# Altium integrated library Analog Devices Data Converters Analog-to-Digital Converters.IntLib: 2404 symbols (part 26 of 346)
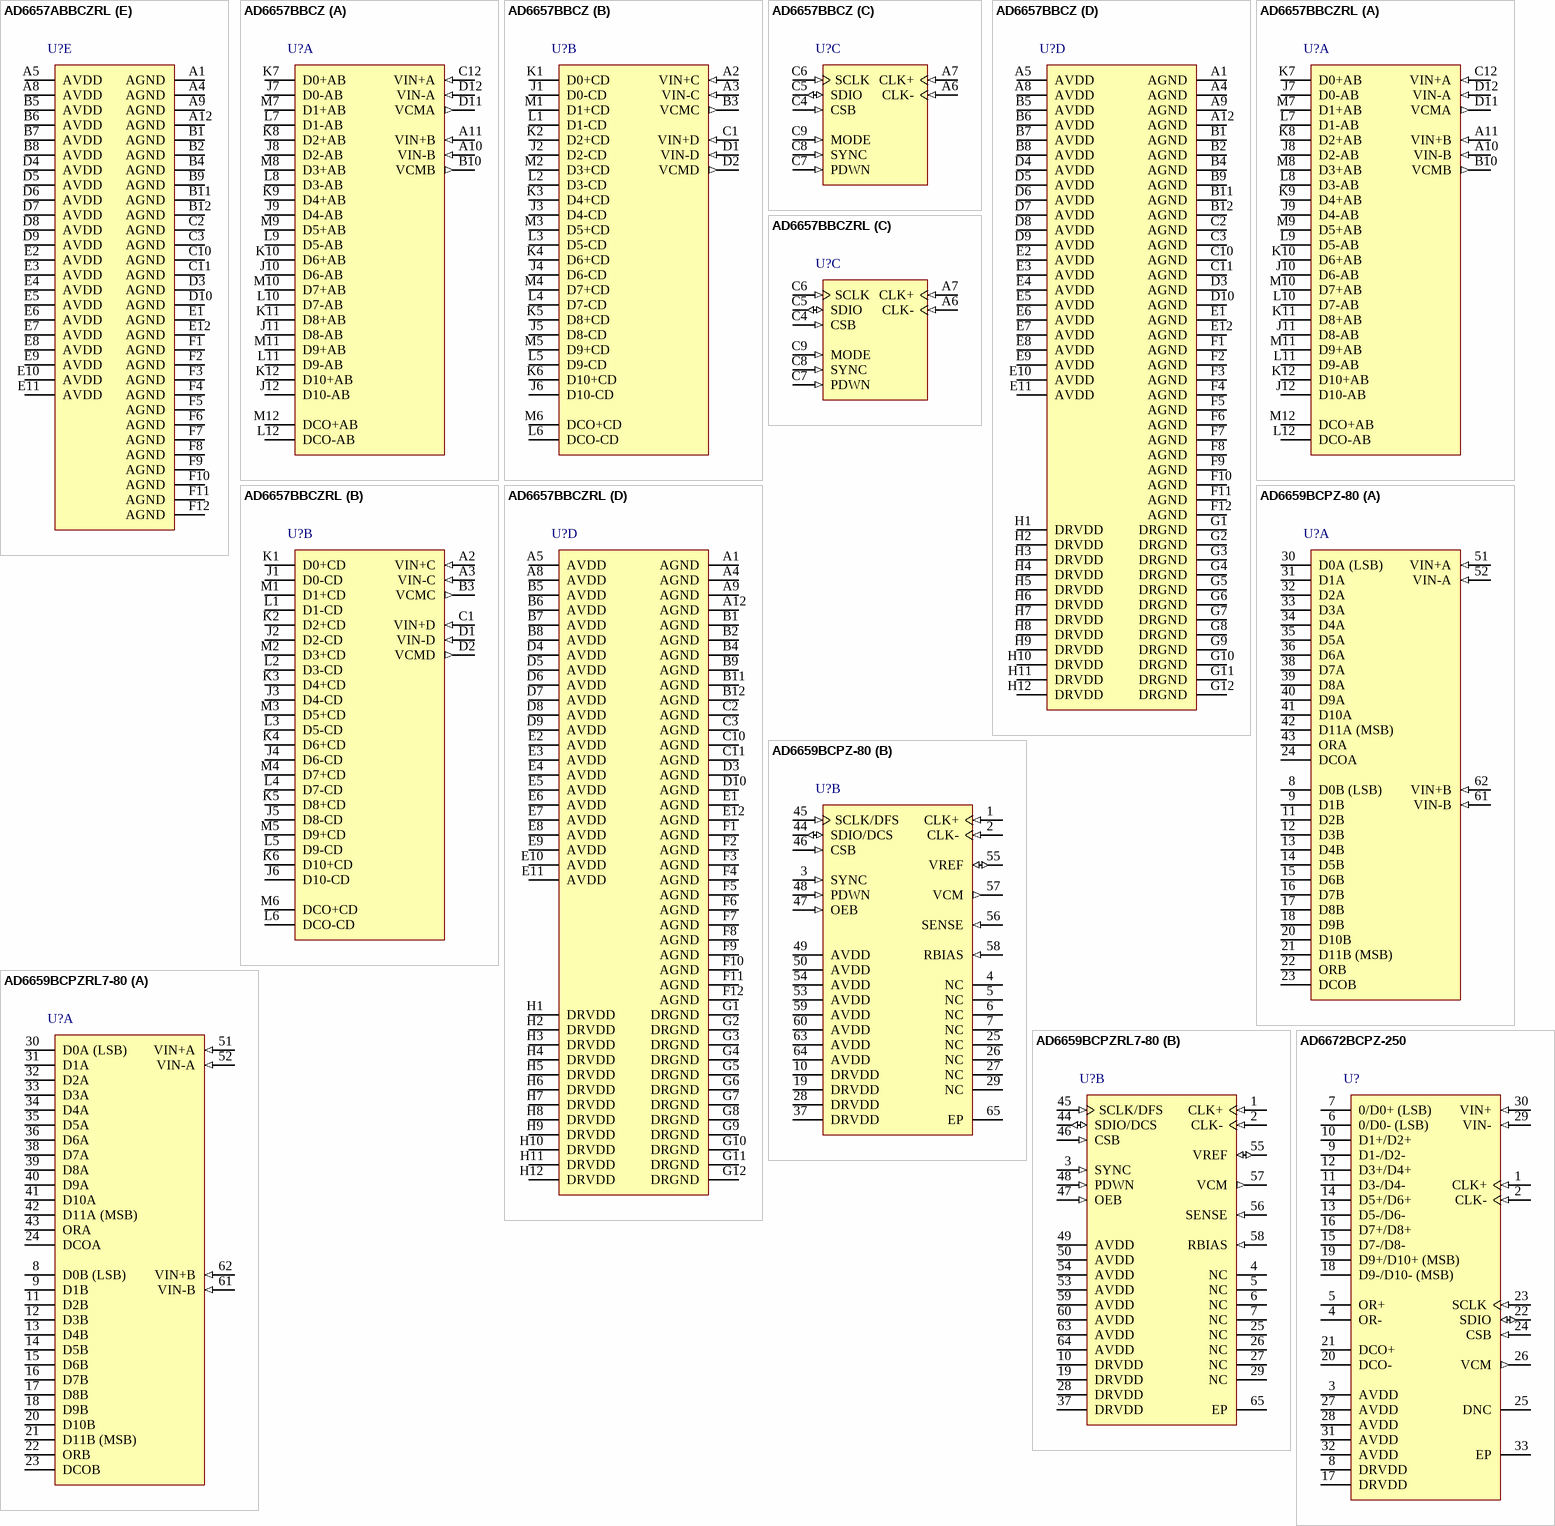
[diagram p169: symbols AD6657ABBCZRL to AD6672BCPZ-250]

## AD6657ABBCZRL
designator U?
Quad IF Receiver, -40 to +85 degC, BC-144-1, Pb-Free, Reel; Generic Part Number: AD6657A; Manufacturer: Analog Devices; PartNumber: AD6657ABBCZRL; Channels: 4; DatasheetVersion: Rev.0; PackageVersion: 012006-0; PackageReference: BC-144-1; PackageDescription: 144-Ball Chip Scale Package Ball Grid Array [CSP_BGA]; Supplier 1: Digi-Key; Supplier Part Number 1: AD6657ABBCZRL-ND; Supplier 2: Mouser; Supplier Part Number 2: 584-AD6657ABBCZR; RoHS: Y; Packing: Reel; Mounting Technology: Surface Mount; Code_JEDEC: MO-205-AC; ComponentLink1Description: Manufacturer URL; ComponentLink1URL: http://www.analog.com/en/index.html; ComponentLink2Description: Datasheet; ComponentLink2URL: http://www.analog.com/static/imported-files/data_sheets/AD6657A.pdf; ComponentLink3Description: Package Specification; ComponentLink3URL: http://www.analog.com/static/imported-files/packages/453163286836504146030385BC_144_1.pdf; ComponentLink4Description: Product URL; ComponentLink4URL: http://www.analog.com/en/analog-to-digital-converters/integrated-receivers/ad6657a/products/product.html
footprint BC-144-1 (BGA, 144-Leads, Body 10x10mm, Pitch 0.8mm)
part A pins: A10 VIN-B (in) "Differential Analog Input Pin (-) for Channel B.", A11 VIN+B (in) "Differential Analog Input Pin (+) for Channel B.", B10 VCMB (out) "Common-Mode Level Bias Output for Analog Input Channel B.", C12 VIN+A (in) "Differential Analog Input Pin (+) for Channel A.", D11 VCMA (out) "Common-Mode Level Bias Output for Analog Input Channel A.", D12 VIN-A (in) "Differential Analog Input Pin (-) for Channel A.", J7 D0-AB (out) "Channel A and Channel B LVDS Output Data 0--Complement.", J8 D2-AB (out) "Channel A and Channel B LVDS Output Data 2--Complement.", J9 D4-AB (out) "Channel A and Channel B LVDS Output Data 4--Complement.", J10 D6-AB (out) "Channel A and Channel B LVDS Output Data 6--Complement.", J11 D8-AB (out) "Channel A and Channel B LVDS Output Data 8--Complement.", J12 D10-AB (out) "Channel A and Channel B LVDS Output Data 10--Complement.", K7 D0+AB (out) "Channel A and Channel B LVDS Output Data 0--True.", K8 D2+AB (out) "Channel A and Channel B LVDS Output Data 2--True.", K9 D4+AB (out) "Channel A and Channel B LVDS Output Data 4--True.", K10 D6+AB (out) "Channel A and Channel B LVDS Output Data 6--True.", K11 D8+AB (out) "Channel A and Channel B LVDS Output Data 8--True.", K12 D10+AB (out) "Channel A and Channel B LVDS Output Data 10--True.", L7 D1-AB (out) "Channel A and Channel B LVDS Output Data 1--Complement.", L8 D3-AB (out) "Channel A and Channel B LVDS Output Data 3--Complement.", L9 D5-AB (out) "Channel A and Channel B LVDS Output Data 5--Complement.", L10 D7-AB (out) "Channel A and Channel B LVDS Output Data 7--Complement.", L11 D9-AB (out) "Channel A and Channel B LVDS Output Data 9--Complement.", L12 DCO-AB (out) "Data Clock LVDS Output for Channel A and Channel B--Complement.", M7 D1+AB (out) "Channel A and Channel B LVDS Output Data 1--True.", M8 D3+AB (out) "Channel A and Channel B LVDS Output Data 3--True.", M9 D5+AB (out) "Channel A and Channel B LVDS Output Data 5--True.", M10 D7+AB (out) "Channel A and Channel B LVDS Output Data 7--True.", M11 D9+AB (out) "Channel A and Channel B LVDS Output Data 9--True.", M12 DCO+AB (out) "Data Clock LVDS Output for Channel A and Channel B--True."
part B pins: A2 VIN+C (in) "Differential Analog Input Pin (+) for Channel C.", A3 VIN-C (in) "Differential Analog Input Pin (-) for Channel C.", B3 VCMC (out) "Common-Mode Level Bias Output for Analog Input Channel C.", C1 VIN+D (in) "Differential Analog Input Pin (+) for Channel D.", D1 VIN-D (in) "Differential Analog Input Pin (-) for Channel D.", D2 VCMD (out) "Common-Mode Level Bias Output for Analog Input Channel D.", J1 D0-CD (out) "Channel C and Channel D LVDS Output Data 0--Complement.", J2 D2-CD (out) "Channel C and Channel D LVDS Output Data 2--Complement.", J3 D4-CD (out) "Channel C and Channel D LVDS Output Data 4--Complement.", J4 D6-CD (out) "Channel C and Channel D LVDS Output Data 6--Complement.", J5 D8-CD (out) "Channel C and Channel D LVDS Output Data 8--Complement.", J6 D10-CD (out) "Channel C and Channel D LVDS Output Data 10--Complement.", K1 D0+CD (out) "Channel C and Channel D LVDS Output Data 0--True.", K2 D2+CD (out) "Channel C and Channel D LVDS Output Data 2--True.", K3 D4+CD (out) "Channel C and Channel D LVDS Output Data 4--True.", K4 D6+CD (out) "Channel C and Channel D LVDS Output Data 6--True.", K5 D8+CD (out) "Channel C and Channel D LVDS Output Data 8--True.", K6 D10+CD (out) "Channel C and Channel D LVDS Output Data 10--True.", L1 D1-CD (out) "Channel C and Channel D LVDS Output Data 1--Complement.", L2 D3-CD (out) "Channel C and Channel D LVDS Output Data 3--Complement.", L3 D5-CD (out) "Channel C and Channel D LVDS Output Data 5--Complement.", L4 D7-CD (out) "Channel C and Channel D LVDS Output Data 7--Complement.", L5 D9-CD (out) "Channel C and Channel D LVDS Output Data 9--Complement.", L6 DCO-CD (out) "Data Clock LVDS Output for Channel C and Channel D--Complement.", M1 D1+CD (out) "Channel C and Channel D LVDS Output Data 1--True.", M2 D3+CD (out) "Channel C and Channel D LVDS Output Data 3--True.", M3 D5+CD (out) "Channel C and Channel D LVDS Output Data 5--True.", M4 D7+CD (out) "Channel C and Channel D LVDS Output Data 7--True.", M5 D9+CD (out) "Channel C and Channel D LVDS Output Data 9--True.", M6 DCO+CD (out) "Data Clock LVDS Output for Channel C and Channel D--True."
part C pins: A6 CLK- (in) "ADC Clock Input--Complement.", A7 CLK+ (in) "ADC Clock Input--True.", C4 CSB (in) "SPI Chip Select (Active Low).", C5 SDIO (io) "SPI Data.", C6 SCLK (in) "SPI Clock.", C7 PDWN (in) "Power-Down Input (Active High).", C8 SYNC (in) "Digital Synchronization Pin.", C9 MODE (in) "Mode Select Pin. Logic low enables NSR; logic high disables NSR."
part D pins: G1 DRGND (power) "Digital Output Driver Ground.", G2 DRGND (power) "Digital Output Driver Ground.", G3 DRGND (power) "Digital Output Driver Ground.", G4 DRGND (power) "Digital Output Driver Ground.", G5 DRGND (power) "Digital Output Driver Ground.", G6 DRGND (power) "Digital Output Driver Ground.", G7 DRGND (power) "Digital Output Driver Ground.", G8 DRGND (power) "Digital Output Driver Ground.", G9 DRGND (power) "Digital Output Driver Ground.", G10 DRGND (power) "Digital Output Driver Ground.", G11 DRGND (power) "Digital Output Driver Ground.", G12 DRGND (power) "Digital Output Driver Ground.", H1 DRVDD (power) "Digital Output Driver Supply. 1.8 V nominal.", H2 DRVDD (power) "Digital Output Driver Supply. 1.8 V nominal.", H3 DRVDD (power) "Digital Output Driver Supply. 1.8 V nominal.", H4 DRVDD (power) "Digital Output Driver Supply. 1.8 V nominal.", H5 DRVDD (power) "Digital Output Driver Supply. 1.8 V nominal.", H6 DRVDD (power) "Digital Output Driver Supply. 1.8 V nominal.", H7 DRVDD (power) "Digital Output Driver Supply. 1.8 V nominal.", H8 DRVDD (power) "Digital Output Driver Supply. 1.8 V nominal.", H9 DRVDD (power) "Digital Output Driver Supply. 1.8 V nominal.", H10 DRVDD (power) "Digital Output Driver Supply. 1.8 V nominal.", H11 DRVDD (power) "Digital Output Driver Supply. 1.8 V nominal.", H12 DRVDD (power) "Digital Output Driver Supply. 1.8 V nominal."
part E pins: A1 AGND (power) "Analog Ground.", A4 AGND (power) "Analog Ground.", A5 AVDD (power) "Analog Power Supply. 1.8 V nominal.", A8 AVDD (power) "Analog Power Supply. 1.8 V nominal.", A9 AGND (power) "Analog Ground.", A12 AGND (power) "Analog Ground.", B1 AGND (power) "Analog Ground.", B2 AGND (power) "Analog Ground.", B4 AGND (power) "Analog Ground.", B5 AVDD (power) "Analog Power Supply. 1.8 V nominal.", B6 AVDD (power) "Analog Power Supply. 1.8 V nominal.", B7 AVDD (power) "Analog Power Supply. 1.8 V nominal.", B8 AVDD (power) "Analog Power Supply. 1.8 V nominal.", B9 AGND (power) "Analog Ground.", B11 AGND (power) "Analog Ground.", B12 AGND (power) "Analog Ground.", C2 AGND (power) "Analog Ground.", C3 AGND (power) "Analog Ground.", C10 AGND (power) "Analog Ground.", C11 AGND (power) "Analog Ground.", D3 AGND (power) "Analog Ground.", D4 AVDD (power) "Analog Power Supply. 1.8 V nominal.", D5 AVDD (power) "Analog Power Supply. 1.8 V nominal.", D6 AVDD (power) "Analog Power Supply. 1.8 V nominal.", D7 AVDD (power) "Analog Power Supply. 1.8 V nominal.", D8 AVDD (power) "Analog Power Supply. 1.8 V nominal.", D9 AVDD (power) "Analog Power Supply. 1.8 V nominal.", D10 AGND (power) "Analog Ground.", E1 AGND (power) "Analog Ground.", E2 AVDD (power) "Analog Power Supply. 1.8 V nominal.", E3 AVDD (power) "Analog Power Supply. 1.8 V nominal.", E4 AVDD (power) "Analog Power Supply. 1.8 V nominal.", E5 AVDD (power) "Analog Power Supply. 1.8 V nominal.", E6 AVDD (power) "Analog Power Supply. 1.8 V nominal.", E7 AVDD (power) "Analog Power Supply. 1.8 V nominal.", E8 AVDD (power) "Analog Power Supply. 1.8 V nominal.", E9 AVDD (power) "Analog Power Supply. 1.8 V nominal.", E10 AVDD (power) "Analog Power Supply. 1.8 V nominal.", E11 AVDD (power) "Analog Power Supply. 1.8 V nominal.", E12 AGND (power) "Analog Ground.", F1 AGND (power) "Analog Ground.", F2 AGND (power) "Analog Ground.", F3 AGND (power) "Analog Ground.", F4 AGND (power) "Analog Ground.", F5 AGND (power) "Analog Ground.", F6 AGND (power) "Analog Ground.", F7 AGND (power) "Analog Ground.", F8 AGND (power) "Analog Ground.", F9 AGND (power) "Analog Ground.", F10 AGND (power) "Analog Ground.", F11 AGND (power) "Analog Ground.", F12 AGND (power) "Analog Ground."

## AD6657BBCZ
designator U?
Quad 11-Bit IF Receiver with LVDS, Parallel Interface, 200MSPS, -40 to +85 degC, BC-144-1, Pb-Free, Tray; Generic Part Number: AD6657; Manufacturer: Analog Devices; PartNumber: AD6657BBCZ; Resolution (Bits): 11; Channels: 4; Throughput Rate (SPS): 200M; DatasheetVersion: Rev.B; PackageVersion: 012006-0; PackageReference: BC-144-1; PackageDescription: 144-Ball Chip Scale Package Ball Grid Array [CSP_BGA]; Supplier 1: Digi-Key; Supplier Part Number 1: AD6657BBCZ-ND; Supplier 2: Farnell; Supplier Part Number 2: 2081220; Supplier 3: Mouser; Supplier Part Number 3: 584-AD6657BBCZ; Interface: LVDS, Par; RoHS: Y; Packing: Tray; Mounting Technology: Surface Mount; Code_JEDEC: MO-205-AC; ComponentLink1Description: Manufacturer URL; ComponentLink1URL: http://www.analog.com/en/index.html; ComponentLink2Description: Datasheet; ComponentLink2URL: http://www.analog.com/static/imported-files/data_sheets/AD6657.pdf; ComponentLink3Description: Package Specification; ComponentLink3URL: http://www.analog.com/static/imported-files/packages/453163286836504146030385BC_144_1.pdf; ComponentLink4Description: Product URL; ComponentLink4URL: http://www.analog.com/en/analog-to-digital-converters/integrated-receivers/ad6657/products/product.html
footprint BC-144-1 (BGA, 144-Leads, Body 10x10mm, Pitch 0.8mm)
part A pins: A10 VIN-B (in) "Differential Analog Input Pin (-) for Channel B", A11 VIN+B (in) "Differential Analog Input Pin (+) for Channel B", B10 VCMB (out) "Common-Mode Level Bias Output for Analog Input Channel B", C12 VIN+A (in) "Differential Analog Input Pin (+) for Channel A", D11 VCMA (out) "Common-Mode Level Bias Output for Analog Input Channel A", D12 VIN-A (in) "Differential Analog Input Pin (-) for Channel A", J7 D0-AB (hiz) "Channel A and Channel B LVDS Output Data 0--Complement", J8 D2-AB (hiz) "Channel A and Channel B LVDS Output Data 2--Complement", J9 D4-AB (hiz) "Channel A and Channel B LVDS Output Data 4--Complement", J10 D6-AB (hiz) "Channel A and Channel B LVDS Output Data 6--Complement", J11 D8-AB (hiz) "Channel A and Channel B LVDS Output Data 8--Complement", J12 D10-AB (hiz) "Channel A and Channel B LVDS Output Data 10--Complement", K7 D0+AB (hiz) "Channel A and Channel B LVDS Output Data 0--True", K8 D2+AB (hiz) "Channel A and Channel B LVDS Output Data 2--True", K9 D4+AB (hiz) "Channel A and Channel B LVDS Output Data 4--True", K10 D6+AB (hiz) "Channel A and Channel B LVDS Output Data 6--True", K11 D8+AB (hiz) "Channel A and Channel B LVDS Output Data 6--True", K12 D10+AB (hiz) "Channel A and Channel B LVDS Output Data 6--True", L7 D1-AB (hiz) "Channel A and Channel B LVDS Output Data 1--Complement", L8 D3-AB (hiz) "Channel A and Channel B LVDS Output Data 3--Complement", L9 D5-AB (hiz) "Channel A and Channel B LVDS Output Data 5--Complement", L10 D7-AB (hiz) "Channel A and Channel B LVDS Output Data 7--Complement", L11 D9-AB (hiz) "Channel A and Channel B LVDS Output Data 9--Complement", L12 DCO-AB (hiz) "Data Clock LVDS Output for Channel A and Channel B--Complement", M7 D1+AB (hiz) "Channel A and Channel B LVDS Output Data 1--True", M8 D3+AB (hiz) "Channel A and Channel B LVDS Output Data 3--True", M9 D5+AB (hiz) "Channel A and Channel B LVDS Output Data 5--True", M10 D7+AB (hiz) "Channel A and Channel B LVDS Output Data 7--True", M11 D9+AB (hiz) "Channel A and Channel B LVDS Output Data 9--True", M12 DCO+AB (hiz) "Data Clock LVDS Output for Channel A and Channel B--True"
part B pins: A2 VIN+C (in) "Differential Analog Input Pin (+) for Channel C", A3 VIN-C (in) "Differential Analog Input Pin (-) for Channel C", B3 VCMC (out) "Common-Mode Level Bias Output for Analog Input Channel C", C1 VIN+D (in) "Differential Analog Input Pin (+) for Channel D", D1 VIN-D (in) "Differential Analog Input Pin (-) for Channel D", D2 VCMD (out) "Common-Mode Level Bias Output for Analog Input Channel D", J1 D0-CD (hiz) "Channel C and Channel D LVDS Output Data 0--Complement", J2 D2-CD (hiz) "Channel C and Channel D LVDS Output Data 2--Complement", J3 D4-CD (hiz) "Channel C and Channel D LVDS Output Data 4--Complement", J4 D6-CD (hiz) "Channel C and Channel D LVDS Output Data 6--Complement", J5 D8-CD (hiz) "Channel C and Channel D LVDS Output Data 8--Complement", J6 D10-CD (hiz) "Channel C and Channel D LVDS Output Data 10--Complement", K1 D0+CD (hiz) "Channel C and Channel D LVDS Output Data 0--True", K2 D2+CD (hiz) "Channel C and Channel D LVDS Output Data 2--True", K3 D4+CD (hiz) "Channel C and Channel D LVDS Output Data 4--True", K4 D6+CD (hiz) "Channel C and Channel D LVDS Output Data 6--True", K5 D8+CD (hiz) "Channel C and Channel D LVDS Output Data 8--True", K6 D10+CD (hiz) "Channel C and Channel D LVDS Output Data 10--True", L1 D1-CD (hiz) "Channel C and Channel D LVDS Output Data 1--Complement", L2 D3-CD (hiz) "Channel C and Channel D LVDS Output Data 3--Complement", L3 D5-CD (hiz) "Channel C and Channel D LVDS Output Data 5--Complement", L4 D7-CD (hiz) "Channel C and Channel D LVDS Output Data 7--Complement", L5 D9-CD (hiz) "Channel C and Channel D LVDS Output Data 9--Complement", L6 DCO-CD (hiz) "Data Clock LVDS Output for Channel C and Channel D--Complement", M1 D1+CD (hiz) "Channel C and Channel D LVDS Output Data 1--True", M2 D3+CD (hiz) "Channel C and Channel D LVDS Output Data 3--True", M3 D5+CD (hiz) "Channel C and Channel D LVDS Output Data 5--True", M4 D7+CD (hiz) "Channel C and Channel D LVDS Output Data 7--True", M5 D9+CD (hiz) "Channel C and Channel D LVDS Output Data 9--True", M6 DCO+CD (hiz) "Data Clock LVDS Output for Channel C and Channel D--True"
part C pins: A6 CLK- (in) "ADC Clock Input--Complement", A7 CLK+ (in) "ADC Clock Input--True", C4 CSB (in) "SPI Chip Select (Active Low)", C5 SDIO (io) "SPI Data", C6 SCLK (in) "SPI Clock", C7 PDWN (in) "Power-Down Input (Active High)", C8 SYNC (in) "Digital Synchronization Pin", C9 MODE (in) "Mode Select Pin (Logic Low Enables NSR; Logic High Disables NSR)"
part D pins: A1 AGND (power) "Analog Ground", A4 AGND (power) "Analog Ground", A5 AVDD (power) "Analog Power Supply (1.8 V Nominal)", A8 AVDD (power) "Analog Power Supply (1.8 V Nominal)", A9 AGND (power) "Analog Ground", A12 AGND (power) "Analog Ground", B1 AGND (power) "Analog Ground", B2 AGND (power) "Analog Ground", B4 AGND (power) "Analog Ground", B5 AVDD (power) "Analog Power Supply (1.8 V Nominal)", B6 AVDD (power) "Analog Power Supply (1.8 V Nominal)", B7 AVDD (power) "Analog Power Supply (1.8 V Nominal)", B8 AVDD (power) "Analog Power Supply (1.8 V Nominal)", B9 AGND (power) "Analog Ground", B11 AGND (power) "Analog Ground", B12 AGND (power) "Analog Ground", C2 AGND (power) "Analog Ground", C3 AGND (power) "Analog Ground", C10 AGND (power) "Analog Ground", C11 AGND (power) "Analog Ground", D3 AGND (power) "Analog Ground", D4 AVDD (power) "Analog Power Supply (1.8 V Nominal)", D5 AVDD (power) "Analog Power Supply (1.8 V Nominal)", D6 AVDD (power) "Analog Power Supply (1.8 V Nominal)", D7 AVDD (power) "Analog Power Supply (1.8 V Nominal)", D8 AVDD (power) "Analog Power Supply (1.8 V Nominal)", D9 AVDD (power) "Analog Power Supply (1.8 V Nominal)", D10 AGND (power) "Analog Ground", E1 AGND (power) "Analog Ground", E2 AVDD (power) "Analog Power Supply (1.8 V Nominal)", E3 AVDD (power) "Analog Power Supply (1.8 V Nominal)", E4 AVDD (power) "Analog Power Supply (1.8 V Nominal)", E5 AVDD (power) "Analog Power Supply (1.8 V Nominal)", E6 AVDD (power) "Analog Power Supply (1.8 V Nominal)", E7 AVDD (power) "Analog Power Supply (1.8 V Nominal)", E8 AVDD (power) "Analog Power Supply (1.8 V Nominal)", E9 AVDD (power) "Analog Power Supply (1.8 V Nominal)", E10 AVDD (power) "Analog Power Supply (1.8 V Nominal)", E11 AVDD (power) "Analog Power Supply (1.8 V Nominal)", E12 AGND (power) "Analog Ground", F1 AGND (power) "Analog Ground", F2 AGND (power) "Analog Ground", F3 AGND (power) "Analog Ground", F4 AGND (power) "Analog Ground", F5 AGND (power) "Analog Ground", F6 AGND (power) "Analog Ground", F7 AGND (power) "Analog Ground", F8 AGND (power) "Analog Ground", F9 AGND (power) "Analog Ground", F10 AGND (power) "Analog Ground", F11 AGND (power) "Analog Ground", F12 AGND (power) "Analog Ground", G1 DRGND (power) "Digital Output Driver Ground", G2 DRGND (power) "Digital Output Driver Ground", G3 DRGND (power) "Digital Output Driver Ground", G4 DRGND (power) "Digital Output Driver Ground", G5 DRGND (power) "Digital Output Driver Ground", G6 DRGND (power) "Digital Output Driver Ground", G7 DRGND (power) "Digital Output Driver Ground", G8 DRGND (power) "Digital Output Driver Ground", G9 DRGND (power) "Digital Output Driver Ground", G10 DRGND (power) "Digital Output Driver Ground", G11 DRGND (power) "Digital Output Driver Ground", G12 DRGND (power) "Digital Output Driver Ground", H1 DRVDD (power) "Digital Output Driver Supply (1.8 V Nominal)", H2 DRVDD (power) "Digital Output Driver Supply (1.8 V Nominal)", H3 DRVDD (power) "Digital Output Driver Supply (1.8 V Nominal)", H4 DRVDD (power) "Digital Output Driver Supply (1.8 V Nominal)", H5 DRVDD (power) "Digital Output Driver Supply (1.8 V Nominal)", H6 DRVDD (power) "Digital Output Driver Supply (1.8 V Nominal)", H7 DRVDD (power) "Digital Output Driver Supply (1.8 V Nominal)", H8 DRVDD (power) "Digital Output Driver Supply (1.8 V Nominal)", H9 DRVDD (power) "Digital Output Driver Supply (1.8 V Nominal)", H10 DRVDD (power) "Digital Output Driver Supply (1.8 V Nominal)", H11 DRVDD (power) "Digital Output Driver Supply (1.8 V Nominal)", H12 DRVDD (power) "Digital Output Driver Supply (1.8 V Nominal)"

## AD6657BBCZRL
designator U?
Quad 11-Bit IF Receiver with LVDS, Parallel Interface, 200MSPS, -40 to +85 degC, BC-144-1, Pb-Free, Reel; Generic Part Number: AD6657; Manufacturer: Analog Devices; PartNumber: AD6657BBCZRL; Resolution (Bits): 11; Channels: 4; Throughput Rate (SPS): 200M; DatasheetVersion: Rev.B; PackageVersion: 012006-0; PackageReference: BC-144-1; PackageDescription: 144-Ball Chip Scale Package Ball Grid Array [CSP_BGA]; Supplier 1: Digi-Key; Supplier Part Number 1: AD6657BBCZRL-ND; Supplier 2: Mouser; Supplier Part Number 2: 584-AD6657BBCZR; Interface: LVDS, Par; RoHS: Y; Packing: Reel; Mounting Technology: Surface Mount; Code_JEDEC: MO-205-AC; ComponentLink1Description: Manufacturer URL; ComponentLink1URL: http://www.analog.com/en/index.html; ComponentLink2Description: Datasheet; ComponentLink2URL: http://www.analog.com/static/imported-files/data_sheets/AD6657.pdf; ComponentLink3Description: Package Specification; ComponentLink3URL: http://www.analog.com/static/imported-files/packages/453163286836504146030385BC_144_1.pdf; ComponentLink4Description: Product URL; ComponentLink4URL: http://www.analog.com/en/analog-to-digital-converters/integrated-receivers/ad6657/products/product.html
footprint BC-144-1 (BGA, 144-Leads, Body 10x10mm, Pitch 0.8mm)
part A pins: A10 VIN-B (in) "Differential Analog Input Pin (-) for Channel B", A11 VIN+B (in) "Differential Analog Input Pin (+) for Channel B", B10 VCMB (out) "Common-Mode Level Bias Output for Analog Input Channel B", C12 VIN+A (in) "Differential Analog Input Pin (+) for Channel A", D11 VCMA (out) "Common-Mode Level Bias Output for Analog Input Channel A", D12 VIN-A (in) "Differential Analog Input Pin (-) for Channel A", J7 D0-AB (hiz) "Channel A and Channel B LVDS Output Data 0--Complement", J8 D2-AB (hiz) "Channel A and Channel B LVDS Output Data 2--Complement", J9 D4-AB (hiz) "Channel A and Channel B LVDS Output Data 4--Complement", J10 D6-AB (hiz) "Channel A and Channel B LVDS Output Data 6--Complement", J11 D8-AB (hiz) "Channel A and Channel B LVDS Output Data 8--Complement", J12 D10-AB (hiz) "Channel A and Channel B LVDS Output Data 10--Complement", K7 D0+AB (hiz) "Channel A and Channel B LVDS Output Data 0--True", K8 D2+AB (hiz) "Channel A and Channel B LVDS Output Data 2--True", K9 D4+AB (hiz) "Channel A and Channel B LVDS Output Data 4--True", K10 D6+AB (hiz) "Channel A and Channel B LVDS Output Data 6--True", K11 D8+AB (hiz) "Channel A and Channel B LVDS Output Data 6--True", K12 D10+AB (hiz) "Channel A and Channel B LVDS Output Data 6--True", L7 D1-AB (hiz) "Channel A and Channel B LVDS Output Data 1--Complement", L8 D3-AB (hiz) "Channel A and Channel B LVDS Output Data 3--Complement", L9 D5-AB (hiz) "Channel A and Channel B LVDS Output Data 5--Complement", L10 D7-AB (hiz) "Channel A and Channel B LVDS Output Data 7--Complement", L11 D9-AB (hiz) "Channel A and Channel B LVDS Output Data 9--Complement", L12 DCO-AB (hiz) "Data Clock LVDS Output for Channel A and Channel B--Complement", M7 D1+AB (hiz) "Channel A and Channel B LVDS Output Data 1--True", M8 D3+AB (hiz) "Channel A and Channel B LVDS Output Data 3--True", M9 D5+AB (hiz) "Channel A and Channel B LVDS Output Data 5--True", M10 D7+AB (hiz) "Channel A and Channel B LVDS Output Data 7--True", M11 D9+AB (hiz) "Channel A and Channel B LVDS Output Data 9--True", M12 DCO+AB (hiz) "Data Clock LVDS Output for Channel A and Channel B--True"
part B pins: A2 VIN+C (in) "Differential Analog Input Pin (+) for Channel C", A3 VIN-C (in) "Differential Analog Input Pin (-) for Channel C", B3 VCMC (out) "Common-Mode Level Bias Output for Analog Input Channel C", C1 VIN+D (in) "Differential Analog Input Pin (+) for Channel D", D1 VIN-D (in) "Differential Analog Input Pin (-) for Channel D", D2 VCMD (out) "Common-Mode Level Bias Output for Analog Input Channel D", J1 D0-CD (hiz) "Channel C and Channel D LVDS Output Data 0--Complement", J2 D2-CD (hiz) "Channel C and Channel D LVDS Output Data 2--Complement", J3 D4-CD (hiz) "Channel C and Channel D LVDS Output Data 4--Complement", J4 D6-CD (hiz) "Channel C and Channel D LVDS Output Data 6--Complement", J5 D8-CD (hiz) "Channel C and Channel D LVDS Output Data 8--Complement", J6 D10-CD (hiz) "Channel C and Channel D LVDS Output Data 10--Complement", K1 D0+CD (hiz) "Channel C and Channel D LVDS Output Data 0--True", K2 D2+CD (hiz) "Channel C and Channel D LVDS Output Data 2--True", K3 D4+CD (hiz) "Channel C and Channel D LVDS Output Data 4--True", K4 D6+CD (hiz) "Channel C and Channel D LVDS Output Data 6--True", K5 D8+CD (hiz) "Channel C and Channel D LVDS Output Data 8--True", K6 D10+CD (hiz) "Channel C and Channel D LVDS Output Data 10--True", L1 D1-CD (hiz) "Channel C and Channel D LVDS Output Data 1--Complement", L2 D3-CD (hiz) "Channel C and Channel D LVDS Output Data 3--Complement", L3 D5-CD (hiz) "Channel C and Channel D LVDS Output Data 5--Complement", L4 D7-CD (hiz) "Channel C and Channel D LVDS Output Data 7--Complement", L5 D9-CD (hiz) "Channel C and Channel D LVDS Output Data 9--Complement", L6 DCO-CD (hiz) "Data Clock LVDS Output for Channel C and Channel D--Complement", M1 D1+CD (hiz) "Channel C and Channel D LVDS Output Data 1--True", M2 D3+CD (hiz) "Channel C and Channel D LVDS Output Data 3--True", M3 D5+CD (hiz) "Channel C and Channel D LVDS Output Data 5--True", M4 D7+CD (hiz) "Channel C and Channel D LVDS Output Data 7--True", M5 D9+CD (hiz) "Channel C and Channel D LVDS Output Data 9--True", M6 DCO+CD (hiz) "Data Clock LVDS Output for Channel C and Channel D--True"
part C pins: A6 CLK- (in) "ADC Clock Input--Complement", A7 CLK+ (in) "ADC Clock Input--True", C4 CSB (in) "SPI Chip Select (Active Low)", C5 SDIO (io) "SPI Data", C6 SCLK (in) "SPI Clock", C7 PDWN (in) "Power-Down Input (Active High)", C8 SYNC (in) "Digital Synchronization Pin", C9 MODE (in) "Mode Select Pin (Logic Low Enables NSR; Logic High Disables NSR)"
part D pins: A1 AGND (power) "Analog Ground", A4 AGND (power) "Analog Ground", A5 AVDD (power) "Analog Power Supply (1.8 V Nominal)", A8 AVDD (power) "Analog Power Supply (1.8 V Nominal)", A9 AGND (power) "Analog Ground", A12 AGND (power) "Analog Ground", B1 AGND (power) "Analog Ground", B2 AGND (power) "Analog Ground", B4 AGND (power) "Analog Ground", B5 AVDD (power) "Analog Power Supply (1.8 V Nominal)", B6 AVDD (power) "Analog Power Supply (1.8 V Nominal)", B7 AVDD (power) "Analog Power Supply (1.8 V Nominal)", B8 AVDD (power) "Analog Power Supply (1.8 V Nominal)", B9 AGND (power) "Analog Ground", B11 AGND (power) "Analog Ground", B12 AGND (power) "Analog Ground", C2 AGND (power) "Analog Ground", C3 AGND (power) "Analog Ground", C10 AGND (power) "Analog Ground", C11 AGND (power) "Analog Ground", D3 AGND (power) "Analog Ground", D4 AVDD (power) "Analog Power Supply (1.8 V Nominal)", D5 AVDD (power) "Analog Power Supply (1.8 V Nominal)", D6 AVDD (power) "Analog Power Supply (1.8 V Nominal)", D7 AVDD (power) "Analog Power Supply (1.8 V Nominal)", D8 AVDD (power) "Analog Power Supply (1.8 V Nominal)", D9 AVDD (power) "Analog Power Supply (1.8 V Nominal)", D10 AGND (power) "Analog Ground", E1 AGND (power) "Analog Ground", E2 AVDD (power) "Analog Power Supply (1.8 V Nominal)", E3 AVDD (power) "Analog Power Supply (1.8 V Nominal)", E4 AVDD (power) "Analog Power Supply (1.8 V Nominal)", E5 AVDD (power) "Analog Power Supply (1.8 V Nominal)", E6 AVDD (power) "Analog Power Supply (1.8 V Nominal)", E7 AVDD (power) "Analog Power Supply (1.8 V Nominal)", E8 AVDD (power) "Analog Power Supply (1.8 V Nominal)", E9 AVDD (power) "Analog Power Supply (1.8 V Nominal)", E10 AVDD (power) "Analog Power Supply (1.8 V Nominal)", E11 AVDD (power) "Analog Power Supply (1.8 V Nominal)", E12 AGND (power) "Analog Ground", F1 AGND (power) "Analog Ground", F2 AGND (power) "Analog Ground", F3 AGND (power) "Analog Ground", F4 AGND (power) "Analog Ground", F5 AGND (power) "Analog Ground", F6 AGND (power) "Analog Ground", F7 AGND (power) "Analog Ground", F8 AGND (power) "Analog Ground", F9 AGND (power) "Analog Ground", F10 AGND (power) "Analog Ground", F11 AGND (power) "Analog Ground", F12 AGND (power) "Analog Ground", G1 DRGND (power) "Digital Output Driver Ground", G2 DRGND (power) "Digital Output Driver Ground", G3 DRGND (power) "Digital Output Driver Ground", G4 DRGND (power) "Digital Output Driver Ground", G5 DRGND (power) "Digital Output Driver Ground", G6 DRGND (power) "Digital Output Driver Ground", G7 DRGND (power) "Digital Output Driver Ground", G8 DRGND (power) "Digital Output Driver Ground", G9 DRGND (power) "Digital Output Driver Ground", G10 DRGND (power) "Digital Output Driver Ground", G11 DRGND (power) "Digital Output Driver Ground", G12 DRGND (power) "Digital Output Driver Ground", H1 DRVDD (power) "Digital Output Driver Supply (1.8 V Nominal)", H2 DRVDD (power) "Digital Output Driver Supply (1.8 V Nominal)", H3 DRVDD (power) "Digital Output Driver Supply (1.8 V Nominal)", H4 DRVDD (power) "Digital Output Driver Supply (1.8 V Nominal)", H5 DRVDD (power) "Digital Output Driver Supply (1.8 V Nominal)", H6 DRVDD (power) "Digital Output Driver Supply (1.8 V Nominal)", H7 DRVDD (power) "Digital Output Driver Supply (1.8 V Nominal)", H8 DRVDD (power) "Digital Output Driver Supply (1.8 V Nominal)", H9 DRVDD (power) "Digital Output Driver Supply (1.8 V Nominal)", H10 DRVDD (power) "Digital Output Driver Supply (1.8 V Nominal)", H11 DRVDD (power) "Digital Output Driver Supply (1.8 V Nominal)", H12 DRVDD (power) "Digital Output Driver Supply (1.8 V Nominal)"

## AD6659BCPZ-80
designator U?
Dual 12-Bit IF Receiver with Parallel Interface, 80MSPS, -40 to +85 degC, CP-64-4, Pb-Free, Tray; Generic Part Number: AD6659; Manufacturer: Analog Devices; PartNumber: AD6659BCPZ-80; Resolution (Bits): 12; Channels: 2; Throughput Rate (SPS): 80M; Interface: Par; DatasheetVersion: Rev.A; PackageVersion: 051007-C; PackageReference: CP-64-4; PackageDescription: 64-Lead Lead Frame Chip Scale Package [LFCSP_VQ] 9 x 9 mm Body, Very Thin Quad; Supplier 1: Digi-Key; Supplier Part Number 1: AD6659BCPZ-80-ND; Supplier 2: Mouser; Supplier Part Number 2: 584-AD6659BCPZ-80; RoHS: Y; Packing: Tray; Mounting Technology: Surface Mount; Code_JEDEC: MO-220-VMMD-4; ComponentLink1Description: Manufacturer URL; ComponentLink1URL: http://www.analog.com/en/index.html; ComponentLink2Description: Datasheet; ComponentLink2URL: http://www.analog.com/static/imported-files/data_sheets/AD6659.pdf; ComponentLink3Description: Package Specification; ComponentLink3URL: http://www.analog.com/static/imported-files/packages/PKG_PDF/LFCSP(CP)/CP_64_4.pdf; ComponentLink4Description: Product URL; ComponentLink4URL: http://www.analog.com/en/analog-to-digital-converters/ad-converters/ad6659/products/product.html
footprint CP-64-4_N (QFN, 64-Leads, Body 9x9mm, Pitch 0.5mm, Thermal Pad 6.2x6.2mm, IPC Medium Density)
footprint CP-64-4_L (QFN, 64-Leads, Body 9x9mm, Pitch 0.5mm, Thermal Pad 6.2x6.2mm, IPC High Density)
footprint CP-64-4_M (QFN, 64-Leads, Body 9x9mm, Pitch 0.5mm, Thermal Pad 6.2x6.2mm, IPC Low Density)
part A pins: 8 D0B (LSB) (hiz) "Channel B Digital Outputs.  D0B is the LSB.", 9 D1B (hiz) "Channel B Digital Outputs.", 11 D2B (hiz) "Channel B Digital Outputs.", 12 D3B (hiz) "Channel B Digital Outputs.", 13 D4B (hiz) "Channel B Digital Outputs.", 14 D5B (hiz) "Channel B Digital Outputs.", 15 D6B (hiz) "Channel B Digital Outputs.", 16 D7B (hiz) "Channel B Digital Outputs.", 17 D8B (hiz) "Channel B Digital Outputs.", 18 D9B (hiz) "Channel B Digital Outputs.", 20 D10B (hiz) "Channel B Digital Outputs.", 21 D11B (MSB) (hiz) "Channel B Digital Outputs. D11B is the MSB.", 22 ORB (hiz) "Channel B Out-of-Range Digital Output.", 23 DCOB (hiz) "Channel B Data Clock Digital Output.", 24 DCOA (hiz) "Channel A Data Clock Digital Output.", 30 D0A (LSB) (hiz) "Channel A Digital Outputs.  D0A is the LSB.", 31 D1A (hiz) "Channel A Digital Outputs.", 32 D2A (hiz) "Channel A Digital Outputs.", 33 D3A (hiz) "Channel A Digital Outputs.", 34 D4A (hiz) "Channel A Digital Outputs.", 35 D5A (hiz) "Channel A Digital Outputs.", 36 D6A (hiz) "Channel A Digital Outputs.", 38 D7A (hiz) "Channel A Digital Outputs.", 39 D8A (hiz) "Channel A Digital Outputs.", 40 D9A (hiz) "Channel A Digital Outputs.", 41 D10A (hiz) "Channel A Digital Outputs.", 42 D11A (MSB) (hiz) "Channel A Digital Outputs. D11A is the MSB.", 43 ORA (hiz) "Channel A Out-of-Range Digital Output.", 51 VIN+A (in) "Channel A Analog Inputs.", 52 VIN-A (in) "Channel A Analog Inputs.", 61 VIN-B (in) "Channel B Analog Inputs.", 62 VIN+B (in) "Channel B Analog Inputs."
part B pins: 1 CLK+ (in) "Differential Encode Clock. PECL, LVDS, or 1.8 V CMOS inputs.", 2 CLK- (in) "Differential Encode Clock. PECL, LVDS, or 1.8 V CMOS inputs.", 3 SYNC (in) "Digital Input. SYNC input to clock divider. 30 k ohm internal pull-down", 4 NC "Do Not Connect.", 5 NC "Do Not Connect.", 6 NC "Do Not Connect.", 7 NC "Do Not Connect.", 10 DRVDD (power) "Digital Output Driver Supply (1.8 V to 3.3 V).", 19 DRVDD (power) "Digital Output Driver Supply (1.8 V to 3.3 V).", 25 NC "Do Not Connect.", 26 NC "Do Not Connect.", 27 NC "Do Not Connect.", 28 DRVDD (power) "Digital Output Driver Supply (1.8 V to 3.3 V).", 29 NC "Do Not Connect.", 37 DRVDD (power) "Digital Output Driver Supply (1.8 V to 3.3 V).", 44 SDIO/DCS (io) "SPI Data Input/Output (SDIO). The SDIO function provides bidirectional SPI data I/O in SPI mode with a 30 k ohm internal pull-down in SPI mode. The duty cycle stabilizer (DCS pin function) is the static enable input for the (See Datasheet)", 45 SCLK/DFS (in) "SPI Clock (SCLK) Input in SPI Mode/Data Format Select (DFS). 30 k ohm internal pull-down for both SCLK and DFS. The DFS function provides static control of data output format in non-SPI mode. When DFS is high, it equals twos (See Datasheet)", 46 CSB (in) "SPI Chip Select. Active low enable; 30 k ohm internal pull-up.", 47 OEB (in) "Digital Input. When OEB is low, it enables the Channel A and Channel B digital outputs; when OEB is high, the outputs are tristated. 30 k ohm internal pull-down.", 48 PDWN (in) "Digital Input. 30 kohm internal pull-down. When PDWN is high, it powers down the device. When PDWN is low, the device runs in normal operation.", 49 AVDD (power) "1.8 V Analog Supply Pins.", 50 AVDD (power) "1.8 V Analog Supply Pins.", 53 AVDD (power) "1.8 V Analog Supply Pins.", 54 AVDD (power) "1.8 V Analog Supply Pins.", 55 VREF (io) "Voltage Reference Input/Output.", 56 SENSE (in) "Reference Mode Selection.", 57 VCM (out) "Analog output voltage at midsupply to set common mode of the analog inputs.", 58 RBIAS (in) "Sets Analog Current Bias. Connect to a 10 k ohm (1% tolerance) resistor to ground.", 59 AVDD (power) "1.8 V Analog Supply Pins.", 60 AVDD (power) "1.8 V Analog Supply Pins.", 63 AVDD (power) "1.8 V Analog Supply Pins.", 64 AVDD (power) "1.8 V Analog Supply Pins.", 65 EP (power) "Exposed paddle is the only ground connection for the chip. It must be connected to the printed circuit board (PCB) AGND."

## AD6659BCPZRL7-80
designator U?
Dual 12-Bit IF Receiver with Parallel Interface, 80MSPS, -40 to +85 degC, CP-64-4, Pb-Free, Reel; Generic Part Number: AD6659; Manufacturer: Analog Devices; PartNumber: AD6659BCPZRL7-80; Resolution (Bits): 12; Channels: 2; Throughput Rate (SPS): 80M; Interface: Par; DatasheetVersion: Rev.A; PackageVersion: 051007-C; PackageReference: CP-64-4; PackageDescription: 64-Lead Lead Frame Chip Scale Package [LFCSP_VQ] 9 x 9 mm Body, Very Thin Quad; Supplier 1: Digi-Key; Supplier Part Number 1: AD6659BCPZRL7-80-ND; Supplier 2: Mouser; Supplier Part Number 2: 584-AD6659BCPZR7-80; RoHS: Y; Packing: Reel; Mounting Technology: Surface Mount; Code_JEDEC: MO-220-VMMD-4; ComponentLink1Description: Manufacturer URL; ComponentLink1URL: http://www.analog.com/en/index.html; ComponentLink2Description: Datasheet; ComponentLink2URL: http://www.analog.com/static/imported-files/data_sheets/AD6659.pdf; ComponentLink3Description: Package Specification; ComponentLink3URL: http://www.analog.com/static/imported-files/packages/PKG_PDF/LFCSP(CP)/CP_64_4.pdf; ComponentLink4Description: Product URL; ComponentLink4URL: http://www.analog.com/en/analog-to-digital-converters/ad-converters/ad6659/products/product.html
footprint CP-64-4_N (QFN, 64-Leads, Body 9x9mm, Pitch 0.5mm, Thermal Pad 6.2x6.2mm, IPC Medium Density)
footprint CP-64-4_L (QFN, 64-Leads, Body 9x9mm, Pitch 0.5mm, Thermal Pad 6.2x6.2mm, IPC High Density)
footprint CP-64-4_M (QFN, 64-Leads, Body 9x9mm, Pitch 0.5mm, Thermal Pad 6.2x6.2mm, IPC Low Density)
part A pins: 8 D0B (LSB) (hiz) "Channel B Digital Outputs.  D0B is the LSB.", 9 D1B (hiz) "Channel B Digital Outputs.", 11 D2B (hiz) "Channel B Digital Outputs.", 12 D3B (hiz) "Channel B Digital Outputs.", 13 D4B (hiz) "Channel B Digital Outputs.", 14 D5B (hiz) "Channel B Digital Outputs.", 15 D6B (hiz) "Channel B Digital Outputs.", 16 D7B (hiz) "Channel B Digital Outputs.", 17 D8B (hiz) "Channel B Digital Outputs.", 18 D9B (hiz) "Channel B Digital Outputs.", 20 D10B (hiz) "Channel B Digital Outputs.", 21 D11B (MSB) (hiz) "Channel B Digital Outputs. D11B is the MSB.", 22 ORB (hiz) "Channel B Out-of-Range Digital Output.", 23 DCOB (hiz) "Channel B Data Clock Digital Output.", 24 DCOA (hiz) "Channel A Data Clock Digital Output.", 30 D0A (LSB) (hiz) "Channel A Digital Outputs.  D0A is the LSB.", 31 D1A (hiz) "Channel A Digital Outputs.", 32 D2A (hiz) "Channel A Digital Outputs.", 33 D3A (hiz) "Channel A Digital Outputs.", 34 D4A (hiz) "Channel A Digital Outputs.", 35 D5A (hiz) "Channel A Digital Outputs.", 36 D6A (hiz) "Channel A Digital Outputs.", 38 D7A (hiz) "Channel A Digital Outputs.", 39 D8A (hiz) "Channel A Digital Outputs.", 40 D9A (hiz) "Channel A Digital Outputs.", 41 D10A (hiz) "Channel A Digital Outputs.", 42 D11A (MSB) (hiz) "Channel A Digital Outputs. D11A is the MSB.", 43 ORA (hiz) "Channel A Out-of-Range Digital Output.", 51 VIN+A (in) "Channel A Analog Inputs.", 52 VIN-A (in) "Channel A Analog Inputs.", 61 VIN-B (in) "Channel B Analog Inputs.", 62 VIN+B (in) "Channel B Analog Inputs."
part B pins: 1 CLK+ (in) "Differential Encode Clock. PECL, LVDS, or 1.8 V CMOS inputs.", 2 CLK- (in) "Differential Encode Clock. PECL, LVDS, or 1.8 V CMOS inputs.", 3 SYNC (in) "Digital Input. SYNC input to clock divider. 30 k ohm internal pull-down", 4 NC "Do Not Connect.", 5 NC "Do Not Connect.", 6 NC "Do Not Connect.", 7 NC "Do Not Connect.", 10 DRVDD (power) "Digital Output Driver Supply (1.8 V to 3.3 V).", 19 DRVDD (power) "Digital Output Driver Supply (1.8 V to 3.3 V).", 25 NC "Do Not Connect.", 26 NC "Do Not Connect.", 27 NC "Do Not Connect.", 28 DRVDD (power) "Digital Output Driver Supply (1.8 V to 3.3 V).", 29 NC "Do Not Connect.", 37 DRVDD (power) "Digital Output Driver Supply (1.8 V to 3.3 V).", 44 SDIO/DCS (io) "SPI Data Input/Output (SDIO). The SDIO function provides bidirectional SPI data I/O in SPI mode with a 30 k ohm internal pull-down in SPI mode. The duty cycle stabilizer (DCS pin function) is the static enable input for the (See Datasheet)", 45 SCLK/DFS (in) "SPI Clock (SCLK) Input in SPI Mode/Data Format Select (DFS). 30 k ohm internal pull-down for both SCLK and DFS. The DFS function provides static control of data output format in non-SPI mode. When DFS is high, it equals twos (See Datasheet)", 46 CSB (in) "SPI Chip Select. Active low enable; 30 k ohm internal pull-up.", 47 OEB (in) "Digital Input. When OEB is low, it enables the Channel A and Channel B digital outputs; when OEB is high, the outputs are tristated. 30 k ohm internal pull-down.", 48 PDWN (in) "Digital Input. 30 kohm internal pull-down. When PDWN is high, it powers down the device. When PDWN is low, the device runs in normal operation.", 49 AVDD (power) "1.8 V Analog Supply Pins.", 50 AVDD (power) "1.8 V Analog Supply Pins.", 53 AVDD (power) "1.8 V Analog Supply Pins.", 54 AVDD (power) "1.8 V Analog Supply Pins.", 55 VREF (io) "Voltage Reference Input/Output.", 56 SENSE (in) "Reference Mode Selection.", 57 VCM (out) "Analog output voltage at midsupply to set common mode of the analog inputs.", 58 RBIAS (in) "Sets Analog Current Bias. Connect to a 10 k ohm (1% tolerance) resistor to ground.", 59 AVDD (power) "1.8 V Analog Supply Pins.", 60 AVDD (power) "1.8 V Analog Supply Pins.", 63 AVDD (power) "1.8 V Analog Supply Pins.", 64 AVDD (power) "1.8 V Analog Supply Pins.", 65 EP (power) "Exposed paddle is the only ground connection for the chip. It must be connected to the printed circuit board (PCB) AGND."

## AD6672BCPZ-250
designator U?
Single 11-Bit IF Receiver with LVDS Interface, 250MSPS, -40 to +85 degC, CP-32-12, Pb-Free, Tray; Generic Part Number: AD6672; Manufacturer: Analog Devices; PartNumber: AD6672BCPZ-250; Resolution (Bits): 11; Channels: 1; Throughput Rate (SPS): 250M; DatasheetVersion: Rev.0; PackageVersion: 020509-B; PackageReference: CP-32-12; PackageDescription: 32-Lead Lead Frame Chip Scale Package [LFCSP_WQ] 5 x 5 mm Body, Very Very Thin Quad; Supplier 1: Digi-Key; Supplier Part Number 1: AD6672BCPZ-250-ND; Supplier 2: Farnell; Supplier Part Number 2: 2009265; Supplier 3: Newark; Supplier Part Number 3: 55T8938; Supplier 4: Mouser; Supplier Part Number 4: 584-AD6672BCPZ-250; Interface: LVDS; RoHS: Y; Packing: Tray; Mounting Technology: Surface Mount; Code_JEDEC: MO-220-WHHD; ComponentLink1Description: Manufacturer URL; ComponentLink1URL: http://www.analog.com/en/index.html; ComponentLink2Description: Datasheet; ComponentLink2URL: http://www.analog.com/static/imported-files/data_sheets/AD6672.pdf; ComponentLink3Description: Package Specification; ComponentLink3URL: http://www.analog.com/static/imported-files/packages/PKG_PDF/LFCSP(CP)/CP-32/CP_32_12.pdf; ComponentLink4Description: Product URL; ComponentLink4URL: http://www.analog.com/en/analog-to-digital-converters/ad-converters/ad6672/products/product.html
footprint CP-32-12_N (QFN, 32-Leads, Body 5x5mm, Pitch 0.5mm, Thermal Pad 2.6x2.6mm, IPC Medium Density)
footprint CP-32-12_L (QFN, 32-Leads, Body 5x5mm, Pitch 0.5mm, Thermal Pad 2.6x2.6mm, IPC High Density)
footprint CP-32-12_M (QFN, 32-Leads, Body 5x5mm, Pitch 0.5mm, Thermal Pad 2.6x2.6mm, IPC Low Density)
pins: 1 CLK+ (in) "ADC Clock Input--True.", 2 CLK- (in) "ADC Clock Input--Complement.", 3 AVDD (power) "Analog Power Supply (1.8 V Nominal).", 4 OR- (hiz) "Overrange indicator--Complement.", 5 OR+ (hiz) "Overrange indicator--True.", 6 0/D0- (LSB) (hiz) "DDR LVDS Output Data 0--Complement. The output bit on the rising edge of the data clock output (DCO) from this output is always a Logic 0 (see Figure 2).", 7 0/D0+ (LSB) (hiz) "DDR LVDS Output Data 0--True. The output bit on the rising edge of the data clock output (DCO) from this output is always a Logic 0 (see Figure 2).", 8 DRVDD (power) "Digital Output Driver Supply (1.8 V Nominal).", 9 D1-/D2- (hiz) "DDR LVDS Output Data 1/2--Complement.", 10 D1+/D2+ (hiz) "DDR LVDS Output Data 1/2--True.", 11 D3-/D4- (hiz) "DDR LVDS Output Data 3/4--Complement.", 12 D3+/D4+ (hiz) "DDR LVDS Output Data 3/4--True.", 13 D5-/D6- (hiz) "DDR LVDS Output Data 5/6--Complement.", 14 D5+/D6+ (hiz) "DDR LVDS Output Data 5/6--True.", 15 D7-/D8- (hiz) "DDR LVDS Output Data 7/8--Complement.", 16 D7+/D8+ (hiz) "DDR LVDS Output Data 7/8--True.", 17 DRVDD (power) "Digital Output Driver Supply (1.8 V Nominal).", 18 D9-/D10- (MSB) (hiz) "DDR LVDS Output Data 9/10--Complement.", 19 D9+/D10+ (MSB) (hiz) "DDR LVDS Output Data 9/10--True.", 20 DCO- (hiz) "LVDS Data Clock Output--Complement.", 21 DCO+ (hiz) "LVDS Data Clock Output--True.", 22 SDIO (io) "SPI Serial Data I/O.", 23 SCLK (in) "SPI Serial Clock.", 24 CSB (in) "SPI Chip Select (Active Low).", 25 DNC "Do Not Connect. Do not connect to this pin.", 26 VCM (out) "Common-Mode Level Bias Output for Analog Inputs. This pin should be decoupled to ground using a 0.1 uF capacitor.", 27 AVDD (power) "Analog Power Supply (1.8 V Nominal).", 28 AVDD (power) "Analog Power Supply (1.8 V Nominal).", 29 VIN- (in) "Differential Analog Input Pin (-).", 30 VIN+ (in) "Differential Analog Input Pin (+).", 31 AVDD (power) "Analog Power Supply (1.8 V Nominal).", 32 AVDD (power) "Analog Power Supply (1.8 V Nominal).", 33 EP (power) "Analog Ground. The exposed thermal paddle on the bottom of the package provides the analog ground for the part. This exposed paddle must be connected to ground for proper operation."

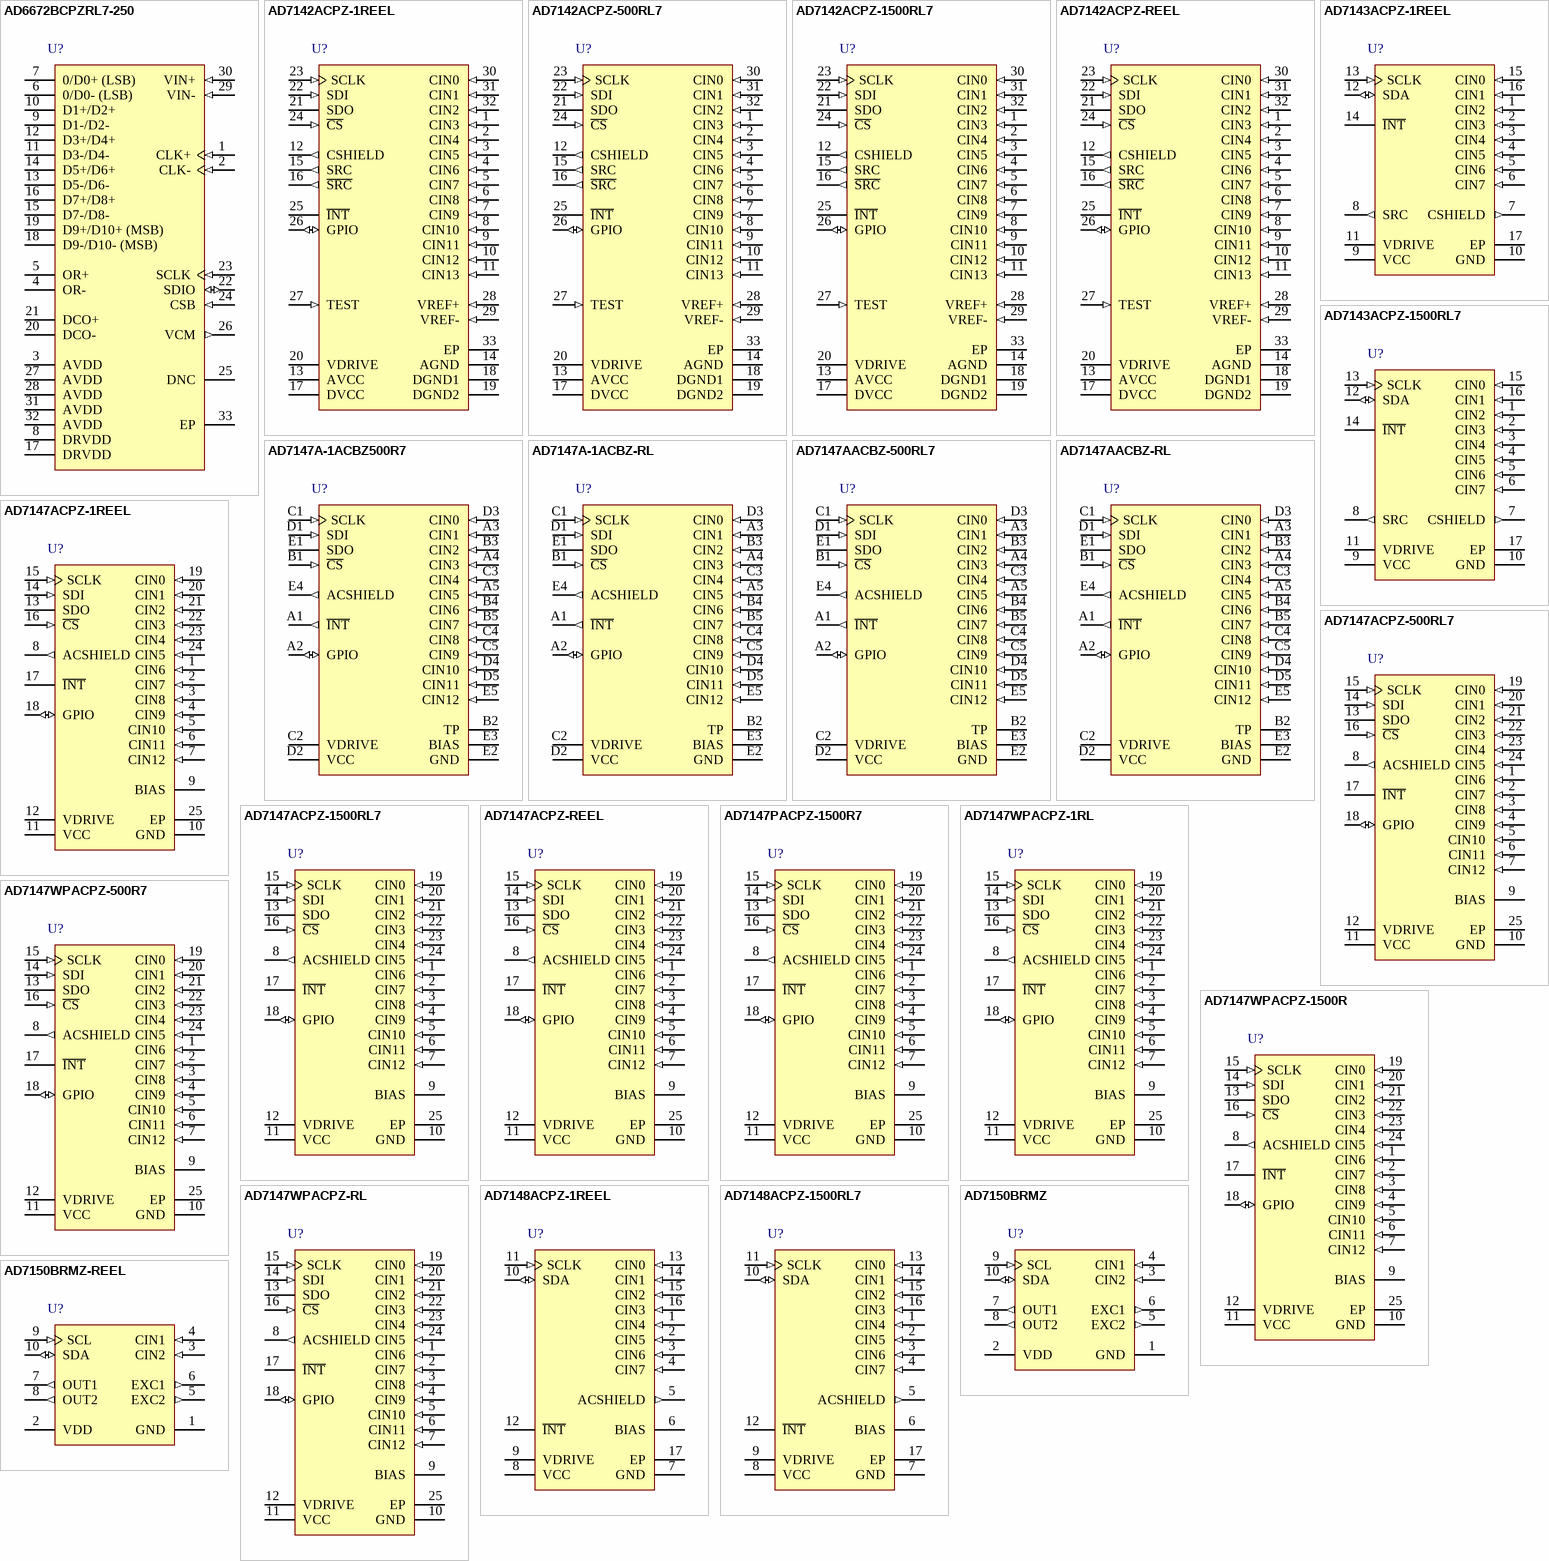
[diagram p13: symbols AD6672BCPZRL7-250 to AD7150BRMZ-REEL]

## AD6672BCPZRL7-250
designator U?
Single 11-Bit IF Receiver with LVDS Interface, 250MSPS, -40 to +85 degC, CP-32-12, Pb-Free, Reel; Generic Part Number: AD6672; Manufacturer: Analog Devices; PartNumber: AD6672BCPZRL7-250; Resolution (Bits): 11; Channels: 1; Throughput Rate (SPS): 250M; DatasheetVersion: Rev.0; PackageVersion: 020509-B; PackageReference: CP-32-12; PackageDescription: 32-Lead Lead Frame Chip Scale Package [LFCSP_WQ] 5 x 5 mm Body, Very Very Thin Quad; Supplier 1: Digi-Key; Supplier Part Number 1: AD6672BCPZRL7-250-ND; Supplier 2: Mouser; Supplier Part Number 2: 584-AD6672BCPZR7-250; Interface: LVDS; RoHS: Y; Packing: Reel; Mounting Technology: Surface Mount; Code_JEDEC: MO-220-WHHD; ComponentLink1Description: Manufacturer URL; ComponentLink1URL: http://www.analog.com/en/index.html; ComponentLink2Description: Datasheet; ComponentLink2URL: http://www.analog.com/static/imported-files/data_sheets/AD6672.pdf; ComponentLink3Description: Package Specification; ComponentLink3URL: http://www.analog.com/static/imported-files/packages/PKG_PDF/LFCSP(CP)/CP-32/CP_32_12.pdf; ComponentLink4Description: Product URL; ComponentLink4URL: http://www.analog.com/en/analog-to-digital-converters/ad-converters/ad6672/products/product.html
footprint CP-32-12_N (QFN, 32-Leads, Body 5x5mm, Pitch 0.5mm, Thermal Pad 2.6x2.6mm, IPC Medium Density)
footprint CP-32-12_L (QFN, 32-Leads, Body 5x5mm, Pitch 0.5mm, Thermal Pad 2.6x2.6mm, IPC High Density)
footprint CP-32-12_M (QFN, 32-Leads, Body 5x5mm, Pitch 0.5mm, Thermal Pad 2.6x2.6mm, IPC Low Density)
pins: 1 CLK+ (in) "ADC Clock Input--True.", 2 CLK- (in) "ADC Clock Input--Complement.", 3 AVDD (power) "Analog Power Supply (1.8 V Nominal).", 4 OR- (hiz) "Overrange indicator--Complement.", 5 OR+ (hiz) "Overrange indicator--True.", 6 0/D0- (LSB) (hiz) "DDR LVDS Output Data 0--Complement. The output bit on the rising edge of the data clock output (DCO) from this output is always a Logic 0 (see Figure 2).", 7 0/D0+ (LSB) (hiz) "DDR LVDS Output Data 0--True. The output bit on the rising edge of the data clock output (DCO) from this output is always a Logic 0 (see Figure 2).", 8 DRVDD (power) "Digital Output Driver Supply (1.8 V Nominal).", 9 D1-/D2- (hiz) "DDR LVDS Output Data 1/2--Complement.", 10 D1+/D2+ (hiz) "DDR LVDS Output Data 1/2--True.", 11 D3-/D4- (hiz) "DDR LVDS Output Data 3/4--Complement.", 12 D3+/D4+ (hiz) "DDR LVDS Output Data 3/4--True.", 13 D5-/D6- (hiz) "DDR LVDS Output Data 5/6--Complement.", 14 D5+/D6+ (hiz) "DDR LVDS Output Data 5/6--True.", 15 D7-/D8- (hiz) "DDR LVDS Output Data 7/8--Complement.", 16 D7+/D8+ (hiz) "DDR LVDS Output Data 7/8--True.", 17 DRVDD (power) "Digital Output Driver Supply (1.8 V Nominal).", 18 D9-/D10- (MSB) (hiz) "DDR LVDS Output Data 9/10--Complement.", 19 D9+/D10+ (MSB) (hiz) "DDR LVDS Output Data 9/10--True.", 20 DCO- (hiz) "LVDS Data Clock Output--Complement.", 21 DCO+ (hiz) "LVDS Data Clock Output--True.", 22 SDIO (io) "SPI Serial Data I/O.", 23 SCLK (in) "SPI Serial Clock.", 24 CSB (in) "SPI Chip Select (Active Low).", 25 DNC "Do Not Connect. Do not connect to this pin.", 26 VCM (out) "Common-Mode Level Bias Output for Analog Inputs. This pin should be decoupled to ground using a 0.1 uF capacitor.", 27 AVDD (power) "Analog Power Supply (1.8 V Nominal).", 28 AVDD (power) "Analog Power Supply (1.8 V Nominal).", 29 VIN- (in) "Differential Analog Input Pin (-).", 30 VIN+ (in) "Differential Analog Input Pin (+).", 31 AVDD (power) "Analog Power Supply (1.8 V Nominal).", 32 AVDD (power) "Analog Power Supply (1.8 V Nominal).", 33 EP (power) "Analog Ground. The exposed thermal paddle on the bottom of the package provides the analog ground for the part. This exposed paddle must be connected to ground for proper operation."